# Altium footprint library DEV-11114.PcbLib: 1 footprints
Each footprint in its own frame and in the unit in brackets; x right, y up, seen from the top. Pads: shape width x height; smd on the part's side, far side on the other; paste and mask are expansions set on the pad; w line width, h text height; cw(c..) or ccw(c..) is an arc to the next point about the centre after c.
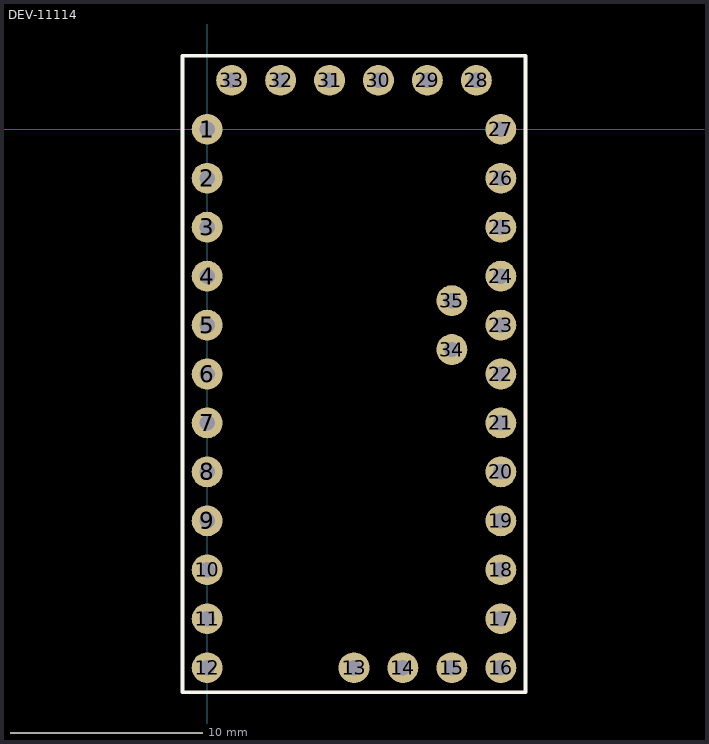
[diagram p0: the footprint, top view; thin cyan lines are the x and y axes]

## DEV-11114 [mm]
pads (35):
  round 1.6 hole 0.8: 1(0,0) 2(0,-2.54) 3(0,-5.08) 4(0,-7.62) 5(0,-10.16) 6(0,-12.7) 7(0,-15.24) 8(0,-17.78) 9(0,-20.32) 10(0,-22.86) 11(0,-25.4) 12(0,-27.94) 13(7.62,-27.94) 14(10.16,-27.94) 15(12.7,-27.94) 16(15.24,-27.94) 17(15.24,-25.4) 18(15.24,-22.86) 19(15.24,-20.32) 20(15.24,-17.78) 21(15.24,-15.24) 22(15.24,-12.7) 23(15.24,-10.16) 24(15.24,-7.62) 25(15.24,-5.08) 26(15.24,-2.54) 27(15.24,0) 28(13.97,2.54) 29(11.43,2.54) 30(8.89,2.54) 31(6.35,2.54) 32(3.81,2.54) 33(1.27,2.54) 34(12.7,-11.43) 35(12.7,-8.89)
Top Overlay:
  lines w0.2: -1.27,-29.21 16.51,-29.21 16.51,3.81 -1.27,3.81 -1.27,-29.21
3D body "Pro-Mini.stp": height 4.6, standoff 0.5, extent -1.27,-29.21 16.51,3.81